# EAGLE library part DRV2605 (library vikc-ic)
The DRV2605L device is a low-voltage haptic driver that includes a haptic-effect library and provides a closed-loop actuator-control system for high-quality tactile feedback for ERM and LRA. This schema helps improve actuator performance in terms of acceleration consistency, start time, and brake time and is accessible through a shared I2C compatible bus or PWM input signal.
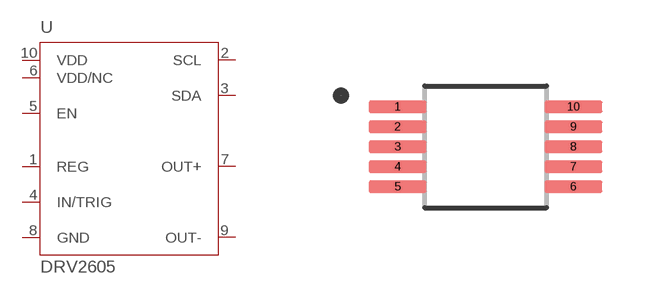
[diagram p15: symbol with the pads of SOP50P490X110-10N; footprint SOP50P490X110-10N]

Designator prefix U

## DRV2605  [SOP50P490X110-10N]
1  REG  out
2  SCL  in
3  SDA
4  IN/TRIG  in
5  EN  in
6  VDD/NC  pwr
7  OUT+  out
8  GND  pwr
9  OUT-  out
10  VDD  pwr

## Footprint SOP50P490X110-10N (pad centres in mm)
smd 1.45 x 0.3: 1 -2.2,1; 2 -2.2,0.5; 3 -2.2,0; 4 -2.2,-0.5; 5 -2.2,-1; 6 2.2,-1; 7 2.2,-0.5; 8 2.2,0; 9 2.2,0.5; 10 2.2,1